# Altium footprint library ConverterDCtoDC.PcbLib: 2 footprints
Each footprint in its own frame and in the unit in brackets; x right, y up, seen from the top. Pads: shape width x height; smd on the part's side, far side on the other; paste and mask are expansions set on the pad; w line width, h text height; cw(c..) or ccw(c..) is an arc to the next point about the centre after c.
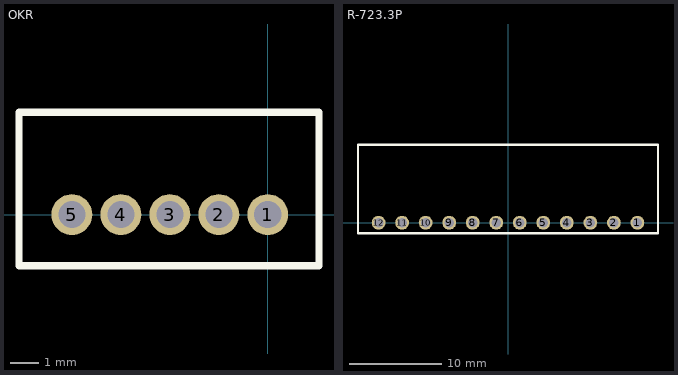
[diagram p0: the footprints below, top view; thin cyan lines are the x and y axes]

## OKR [mm]
pads (5):
  round 1.42 hole 0.94: 1(0,0) 2(-1.7,0) 3(-3.4,0) 4(-5.1,0) 5(-6.8,0)
Top Overlay:
  lines w0.254: -8.636,-1.778 -8.636,3.556 1.778,3.556 1.778,-1.778 -8.636,-1.778
3D body: height 16.51, standoff -3.81, extent -8.636,-1.781 1.778,3.556

## R-723.3P [mm]
pads (12):
  round 1.5 hole 1: 1(13.97,0) 2(11.43,0) 3(8.89,0) 4(6.35,0) 5(3.81,0) 6(1.27,0) 7(-1.27,0) 8(-3.81,0) 9(-6.35,0) 10(-8.89,0) 11(-11.43,0) 12(-13.97,0)
Top Overlay:
  lines w0.254: -16.2,-1.12 16.2,-1.12 16.2,8.4 -16.2,8.4 -16.2,-1.12
3D body: height 15.03, standoff -3.62, extent -16.1,-0.889 16.1,8.211